# Altium footprint library PcbLib1.PcbLib: 13 footprints
Each footprint in its own frame and in the unit in brackets; x right, y up, seen from the top. Pads: shape width x height; smd on the part's side, far side on the other; paste and mask are expansions set on the pad; w line width, h text height; cw(c..) or ccw(c..) is an arc to the next point about the centre after c.
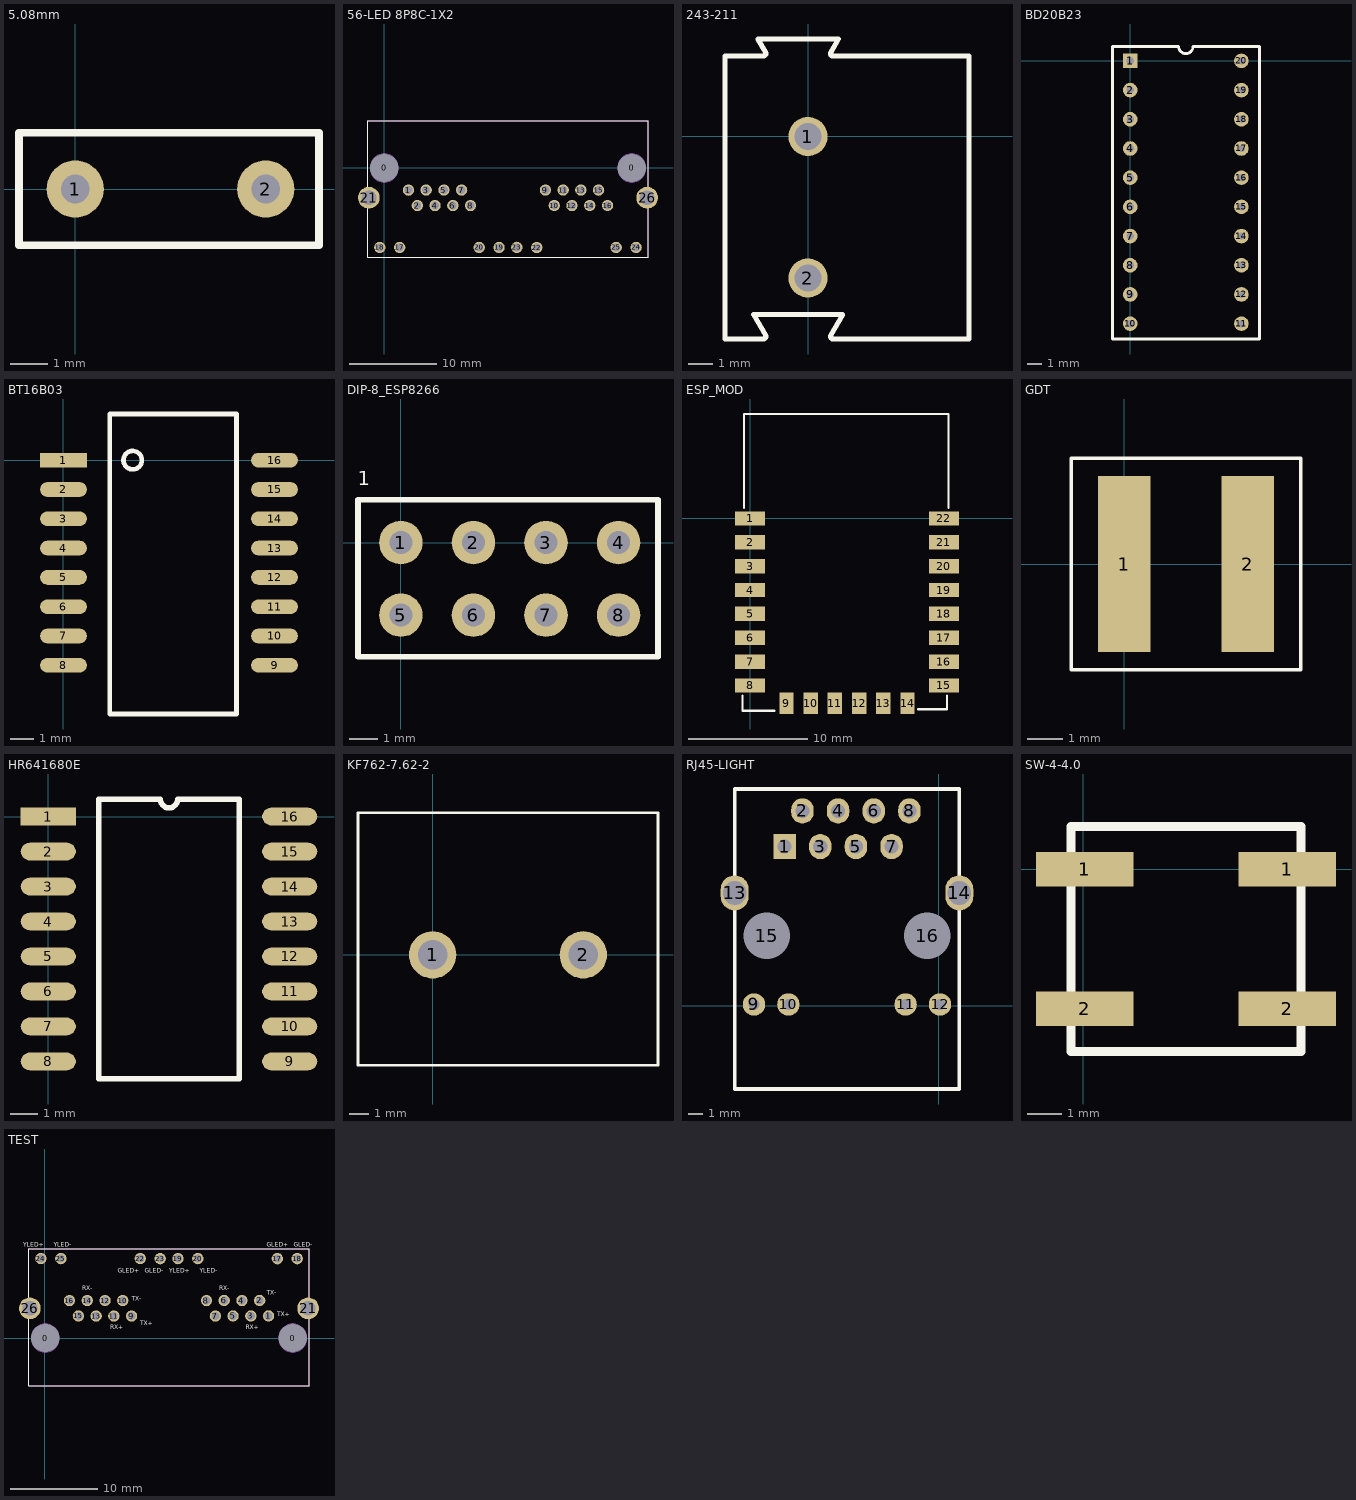
[diagram p0: the footprints below, top view; thin cyan lines are the x and y axes]

## 5.08mm [mil] "PTC"
pads (2):
  round 60 hole 30: 1(0,0) 2(200,0)
Top Overlay:
  lines w8: -59.06,-59.06 255.91,-59.06 255.91,59.06 -59.06,59.06 -59.06,-59.06

## 56-LED 8P8C-1X2 [mm]
pads (28):
  round 1.2 hole 3.25 mask+0.02: 0(0,0) 0(28.45,0)
  round 1.3 hole 0.9 mask+0.02: 1(2.775,-2.55) 2(3.798,-4.326) 3(4.812,-2.546) 4(5.836,-4.321) 5(6.855,-2.546) 6(7.88,-4.326) 7(8.894,-2.54) 8(9.913,-4.321) 9(18.529,-2.539) 10(19.546,-4.318) 11(20.57,-2.539) 12(21.579,-4.324) 13(22.603,-2.539) 14(23.628,-4.318) 15(24.645,-2.548) 16(25.669,-4.318) 17(1.77,-9.138) 18(-0.52,-9.138) 19(13.201,-9.142) 20(10.913,-9.142) 22(17.531,-9.149) 23(15.236,-9.134) 24(28.959,-9.146) 25(26.664,-9.141)
  round 2.5 hole 1.7 mask+0.02: 21(-1.775,-3.425) 26(30.225,-3.425)
Top Overlay:
  lines w0.127: -1.908,-10.295 -1.908,5.455 30.352,5.455 30.352,-10.295 -1.908,-10.295
Mechanical 1:
  circle w0.127: c28.447,-0.005 r1.625
  circle w0.127: c-0.003,-0.005 r1.625
  circle w0.127: c-1.783,-3.435 r0.85
  circle w0.127: c30.217,-3.435 r0.85
  circle w0.127: c28.957,-9.145 r0.45
  circle w0.127: c26.667,-9.145 r0.45
  circle w0.127: c17.527,-9.145 r0.45
  circle w0.127: c15.237,-9.145 r0.45
  circle w0.127: c13.207,-9.145 r0.45
  circle w0.127: c10.917,-9.145 r0.45
  circle w0.127: c1.777,-9.145 r0.45
  circle w0.127: c-0.513,-9.145 r0.45
  circle w0.127: c5.837,-4.325 r0.45
  circle w0.127: c6.857,-2.545 r0.45
  circle w0.127: c21.587,-4.325 r0.45
  circle w0.127: c22.607,-2.545 r0.45
  circle w0.127: c4.817,-2.545 r0.45
  circle w0.127: c3.797,-4.325 r0.45
  circle w0.127: c2.777,-2.545 r0.45
  circle w0.127: c7.877,-4.325 r0.45
  circle w0.127: c8.897,-2.545 r0.45
  circle w0.127: c9.917,-4.325 r0.45
  circle w0.127: c20.567,-2.545 r0.45
  circle w0.127: c19.547,-4.325 r0.45
  circle w0.127: c18.527,-2.545 r0.45
  circle w0.127: c23.627,-4.325 r0.45
  circle w0.127: c24.647,-2.545 r0.45
  circle w0.127: c25.667,-4.325 r0.45
  lines w0.127: -1.908,-10.296 30.352,-10.296 30.352,5.454 -1.908,5.454 -1.908,-10.296

## 243-211 [mm] "EIB Bus Connector"
pads (2):
  round 1.6 / inner round 1.6 / far side round 2.2 hole 1.1 paste+0.1 mask+0: 1(-0.004,-0.004) 2(-0.004,-5.804)
Top Overlay:
  lines w0.2: 0.975,3.296 6.596,3.296 6.596,-8.304 1.019,-8.304 cw(c1.019,-8.204) 0.933,-8.154 1.423,-7.304 -2.231,-7.304 -1.741,-8.154 cw(c-1.827,-8.204) -1.827,-8.304 -3.404,-8.304 -3.404,3.296 -1.827,3.296 ccw(c-1.827,3.396) -1.741,3.446 -2.058,3.996 1.25,3.996 0.933,3.446 ccw(c1.019,3.396) 1.019,3.296

## BD20B23 [mm]
pads (20):
  rect 1x1 hole 0.5: 1(0,0)
  round 1 hole 0.5: 2(0,-2) 3(0,-4) 4(0,-6) 5(0,-8) 6(0,-10) 7(0,-12) 8(0,-14) 9(0,-16) 10(0,-18) 11(7.62,-18) 12(7.62,-16) 13(7.62,-14) 14(7.62,-12) 15(7.62,-10) 16(7.62,-8) 17(7.62,-6) 18(7.62,-4) 19(7.62,-2) 20(7.62,0)
Top Overlay:
  lines w0.2: -1.219,-19.05 -1.219,1 3.31,1 ccw(c3.81,1) 4.31,1 8.865,1 8.865,-19.05 -1.219,-19.05

## BT16B03 [mm]
pads (16):
  rect 2.03x0.64 smd: 1(0,0)
  oval 2.03x0.64 smd: 2(0,-1.27) 3(0,-2.54) 4(0,-3.81) 5(0,-5.08) 6(0,-6.35) 7(0,-7.62) 8(0,-8.89) 9(9.145,-8.89) 10(9.145,-7.62) 11(9.145,-6.35) 12(9.145,-5.08) 13(9.145,-3.81) 14(9.145,-2.54) 15(9.145,-1.27) 16(9.145,0)
Top Overlay:
  circle w0.2: c3,0 r0.4
  lines w0.2: 2,-11 7.5,-11 7.5,2 3.383,2 2,2 2,-11
3D body "User Library-b78476a8247a003.STEP": height 5.6, standoff 0, extent -0.2,-10.7 9.2,2

## DIP-8_ESP8266 [mil]
pads (8):
  round 60 hole 31.5: 1(0,0) 2(100,0) 3(200,0) 4(300,0) 5(0,-100) 6(100,-100) 7(200,-100) 8(300,-100)
Top Overlay:
  lines w7.87: -59.06,-157.48 -59.06,59.06 354.33,59.06 354.33,-157.48 -59.06,-157.48
  text "1" at -59.06,78.74 h19.68

## ESP_MOD [mm]
pads (22):
  rect 2.5x1.2 smd: 1(0,0) 2(0,-2) 3(0,-4) 4(0,-6) 5(0,-8) 6(0,-10) 7(0,-12) 8(0,-14) 15(16.254,-14) 16(16.254,-12) 17(16.254,-10) 18(16.254,-8) 19(16.254,-6) 20(16.254,-4) 21(16.254,-2) 22(16.254,0)
  rect 1.2x1.8 smd: 9(3.048,-15.494) 10(5.08,-15.494) 11(7.112,-15.494) 12(9.144,-15.494) 13(11.176,-15.494) 14(13.208,-15.494)
Top Overlay:
  lines w0.2: -0.635,-14.859 -0.635,-16.129 2.032,-16.129 ; -0.508,0.889 -0.508,8.763 16.637,8.763 16.637,0.889 ; 14.097,-16.002 16.51,-16.002 16.51,-14.859

## GDT [mm]
pads (2):
  rect 1.5x5 smd: 1(0,0) 2(3.5,0)
Top Overlay:
  lines w0.1: -1.5,-3 5,-3 5,3 -1.5,3 -1.5,-3

## HR641680E [mm]
pads (16):
  rect 2x0.64 smd: 1(0,0)
  oval 2x0.64 smd: 2(0,-1.27) 3(0,-2.54) 4(0,-3.81) 5(0,-5.08) 6(0,-6.35) 7(0,-7.62) 8(0,-8.89) 9(8.763,-8.89) 10(8.763,-7.62) 11(8.763,-6.35) 12(8.763,-5.08) 13(8.763,-3.81) 14(8.763,-2.54) 15(8.763,-1.27) 16(8.763,0)
Top Overlay:
  lines w0.2: 1.835,-9.525 1.835,0.635 4.064,0.635 ccw(c4.381,0.635) 4.699,0.635 6.928,0.635 6.928,-9.525 1.835,-9.525

## KF762-7.62-2 [mm]
pads (2):
  round 2.4 hole 1.5: 1(0,0) 2(7.62,0)
Top Overlay:
  lines w0.127: -3.779,-5.599 11.401,-5.599 11.401,7.201 -3.779,7.201 -3.779,-5.599

## RJ45-LIGHT [mm]
pads (16):
  rect 1.6x1.8 hole 1: 1(-10.998,11.328)
  oval 1.6x1.8 hole 1: 2(-9.728,13.868) 3(-8.458,11.328) 4(-7.188,13.868) 5(-5.918,11.328) 6(-4.648,13.868) 7(-3.378,11.328) 8(-2.108,13.868)
  round 1.6 hole 0.8: 9(-13.178,0.078) 10(-10.728,0.078) 11(-2.378,0.078) 12(0.072,0.078)
  oval 2x2.5 hole 1.7: 13(-14.553,8.028) 14(1.447,8.028)
  round 3.2 hole 3.3: 15(-12.268,4.978) 16(-0.838,4.978)
Top Overlay:
  lines w0.254: -14.553,-3.072 -14.553,15.428 ; -14.553,15.428 1.447,15.428 ; -14.553,15.428 -14.553,-5.942 1.447,-5.942 ; 1.447,-5.942 1.447,-3.072 1.447,15.428 ; 1.447,-5.942 1.447,15.428
3D body "HR911105A.STEP": height 2.53, standoff -13.97, extent -14.554,-5.849 1.326,15.551

## SW-4-4.0 [mm]
pads (4):
  rect 2.8x1 smd: 1(0.05,0) 1(5.85,0) 2(0.05,-4) 2(5.85,-4)
Top Overlay:
  lines w0.254: -0.35,-5.225 6.25,-5.225 6.25,1.225 -0.35,1.225 -0.35,-5.225

## TEST [mm]
pads (28):
  round 1.2 hole 3.25 mask+0.02: 0(0.05,0) 0(28.5,0)
  round 1.3 hole 0.9 mask+0.02: 1(25.725,2.55) 2(24.702,4.326) 3(23.688,2.546) 4(22.664,4.321) 5(21.645,2.546) 6(20.62,4.326) 7(19.606,2.54) 8(18.587,4.321) 9(9.971,2.539) 10(8.954,4.318) 11(7.93,2.539) 12(6.921,4.324) 13(5.897,2.539) 14(4.872,4.318) 15(3.855,2.548) 16(2.831,4.318) 17(26.73,9.138) 18(29.02,9.138) 19(15.299,9.142) 20(17.587,9.142) 22(10.969,9.149) 23(13.264,9.134) 24(-0.459,9.146) 25(1.836,9.141)
  round 2.5 hole 1.7 mask+0.02: 21(30.275,3.425) 26(-1.725,3.425)
Top Overlay:
  lines w0.127: -1.852,-5.455 30.408,-5.455 30.408,10.295 -1.852,10.295 -1.852,-5.455
  text "GLED-" at 28.597,10.5 h0.5
  text "GLED+" at 25.5,10.5 h0.5
  text "YLED+" at 14.299,7.5 h0.5
  text "YLED-" at 17.799,7.5 h0.5
  text "GLED+" at 8.403,7.5 h0.5
  text "GLED-" at 11.5,7.5 h0.5
  text "YLED-" at 1,10.5 h0.5
  text "YLED+" at -2.5,10.5 h0.5
  text "TX+" at 26.73,2.5 h0.5
  text "TX-" at 25.5,5 h0.5
  text "RX+" at 23.113,1 h0.5
  text "RX-" at 20.053,5.5 h0.5
  text "TX+" at 10.969,1.5 h0.5
  text "TX-" at 10,4.318 h0.5
  text "RX+" at 7.5,1 h0.5
  text "RX-" at 4.303,5.5 h0.5
Mechanical 1:
  circle w0.127: c2.833,4.325 r0.45
  circle w0.127: c3.853,2.545 r0.45
  circle w0.127: c4.873,4.325 r0.45
  circle w0.127: c9.973,2.545 r0.45
  circle w0.127: c8.953,4.325 r0.45
  circle w0.127: c7.933,2.545 r0.45
  circle w0.127: c18.583,4.325 r0.45
  circle w0.127: c19.603,2.545 r0.45
  circle w0.127: c20.623,4.325 r0.45
  circle w0.127: c25.723,2.545 r0.45
  circle w0.127: c24.703,4.325 r0.45
  circle w0.127: c23.683,2.545 r0.45
  circle w0.127: c5.893,2.545 r0.45
  circle w0.127: c6.913,4.325 r0.45
  circle w0.127: c21.643,2.545 r0.45
  circle w0.127: c22.663,4.325 r0.45
  circle w0.127: c29.013,9.145 r0.45
  circle w0.127: c26.723,9.145 r0.45
  circle w0.127: c17.583,9.145 r0.45
  circle w0.127: c15.293,9.145 r0.45
  circle w0.127: c13.263,9.145 r0.45
  circle w0.127: c10.973,9.145 r0.45
  circle w0.127: c1.833,9.145 r0.45
  circle w0.127: c-0.457,9.145 r0.45
  circle w0.127: c-1.717,3.435 r0.85
  circle w0.127: c30.283,3.435 r0.85
  circle w0.127: c28.503,0.005 r1.625
  circle w0.127: c0.053,0.005 r1.625
  lines w0.127: -1.852,-5.454 -1.852,10.296 30.408,10.296 30.408,-5.454 -1.852,-5.454